# EAGLE library part LTC2946CMSPBF (library LTC2946)
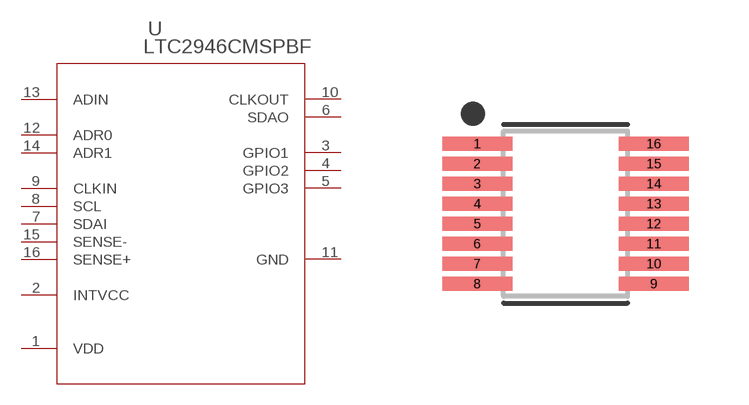
[diagram p0: symbol with the pads of SOP50P489X110-16; footprint SOP50P489X110-16]

Designator prefix U

## LTC2946CMSPBF  [SOP50P489X110-16]
1  VDD  pwr
2  INTVCC
3  GPIO1
4  GPIO2
5  GPIO3
6  SDAO  out
7  SDAI  in
8  SCL  in
9  CLKIN  in
10  CLKOUT  out
11  GND  pwr
12  ADR0  in
13  ADIN  in
14  ADR1  in
15  SENSE-  in
16  SENSE+  in

## Footprint SOP50P489X110-16 (pad centres in mm)
16-SOP, 0.5 mm pitch, 4.899 mm span, 4.0395 X 3 X 1.1 mm body 16-pin SOP package with 0.5 mm pitch, 4.899 mm span with body size 4.0395 X 3 X 1.1 mm
smd 1.753 x 0.344: 1 -2.209,1.75; 2 -2.209,1.25; 3 -2.209,0.75; 4 -2.209,0.25; 5 -2.209,-0.25; 6 -2.209,-0.75; 7 -2.209,-1.25; 8 -2.209,-1.75; 9 2.209,-1.75; 10 2.209,-1.25; 11 2.209,-0.75; 12 2.209,-0.25; 13 2.209,0.25; 14 2.209,0.75; 15 2.209,1.25; 16 2.209,1.75